# Altium schematic symbol library ic-socket.SchLib: 1 symbol
Pins are listed as number, name and electrical type; pins without a type are passive.

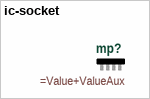
[diagram p0: symbol ic-socket]

## ic-socket
designator mp?  (mechanical)
=Description